# EAGLE library part CA3130 (library 0myLib)
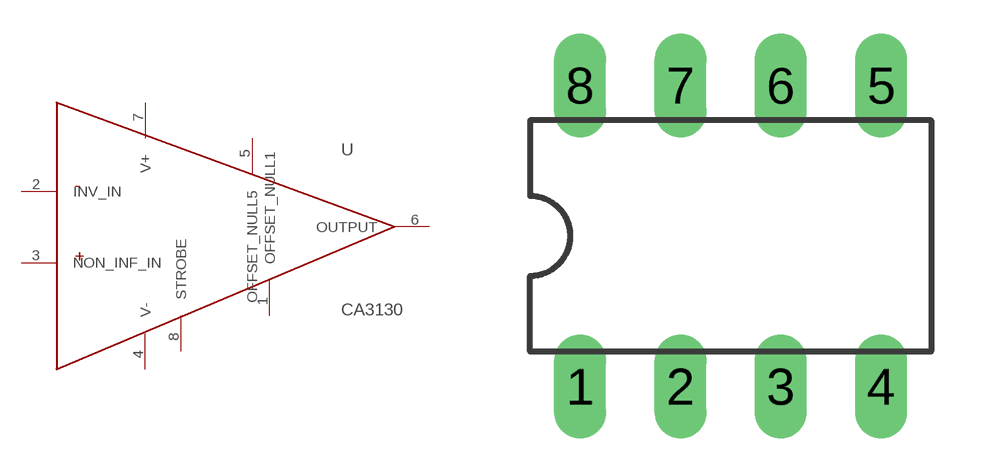
[diagram p55: symbol with the pads of DIL-08; footprint DIL-08]

Designator prefix -

## CA3130  [DIL-08]
1  OFFSET_NULL1
2  INV_IN
3  NON_INF_IN
4  V-
5  OFFSET_NULL5
6  OUTPUT
7  V+
8  STROBE

## Footprint DIL-08 (pad centres in mm)
Dual In Line Package
drill 0.813 long: 1 -3.81,-3.81; 2 -1.27,-3.81; 3 1.27,-3.81; 4 3.81,-3.81; 5 3.81,3.81; 6 1.27,3.81; 7 -1.27,3.81; 8 -3.81,3.81